# EAGLE library part MMA7455L (library xess)
Freescale MMA7455L Freescale 3-axis low-g digital output accelerometer.
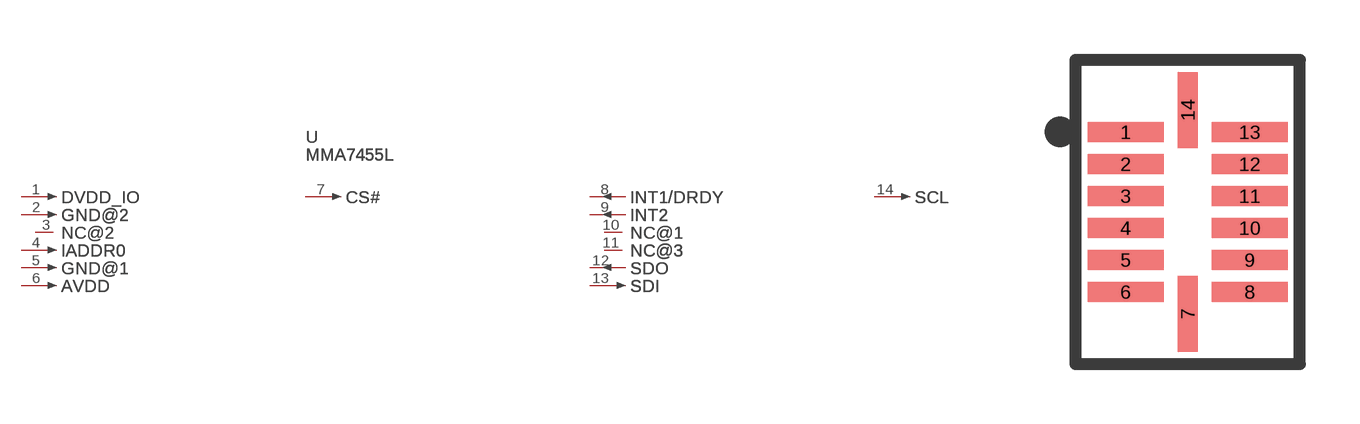
[diagram p153: symbol with the pads of FREESCALE-14_LGA; footprint FREESCALE-14_LGA]

Designator prefix U; gates PART=PV_GATE DVDD_IO=PIN_GATE_IN GND@2=PIN_GATE_IN NC@2=PIN_GATE_NC IADDR0=PIN_GATE_IN GND@1=PIN_GATE_IN AVDD=PIN_GATE_IN CS#=PIN_GATE_IN INT1/DRDY=PIN_GATE_OUT INT2=PIN_GATE_OUT NC@1=PIN_GATE_NC NC@3=PIN_GATE_NC SDO=PIN_GATE_OUT SDI=PIN_GATE_IN SCL=PIN_GATE_IN

## MMA7455L-LGA-14  [FREESCALE-14_LGA]
1  DVDD_IO:1  in
2  GND@2:1  in
3  NC@2:1  nc
4  IADDR0:1  in
5  GND@1:1  in
6  AVDD:1  in
7  CS#:1  in
8  INT1/DRDY:1  out
9  INT2:1  out
10  NC@1:1  nc
11  NC@3:1  nc
12  SDO:1  out
13  SDI:1  in
14  SCL:1  in

## Footprint FREESCALE-14_LGA (pad centres in mm)
Freescale 14-pad LGA
smd 1.9 x 0.5: 1 -0.5,0; 2 -0.5,-0.8; 3 -0.5,-1.6; 4 -0.5,-2.4; 5 -0.5,-3.2; 6 -0.5,-4; 8 2.6,-4; 9 2.6,-3.2; 10 2.6,-2.4; 11 2.6,-1.6; 12 2.6,-0.8; 13 2.6,0
smd 0.5 x 1.9: 7 1.05,-4.55; 14 1.05,0.55